# EAGLE library part PCB_EDGE_CONNECTOR (library Cynara-Connectors)
PCB EDGE CONNECTOR mating with SAMTEC 1MM MINI-CARD GUIDE MB1 series: MB1-150-01-F-S-02-SL
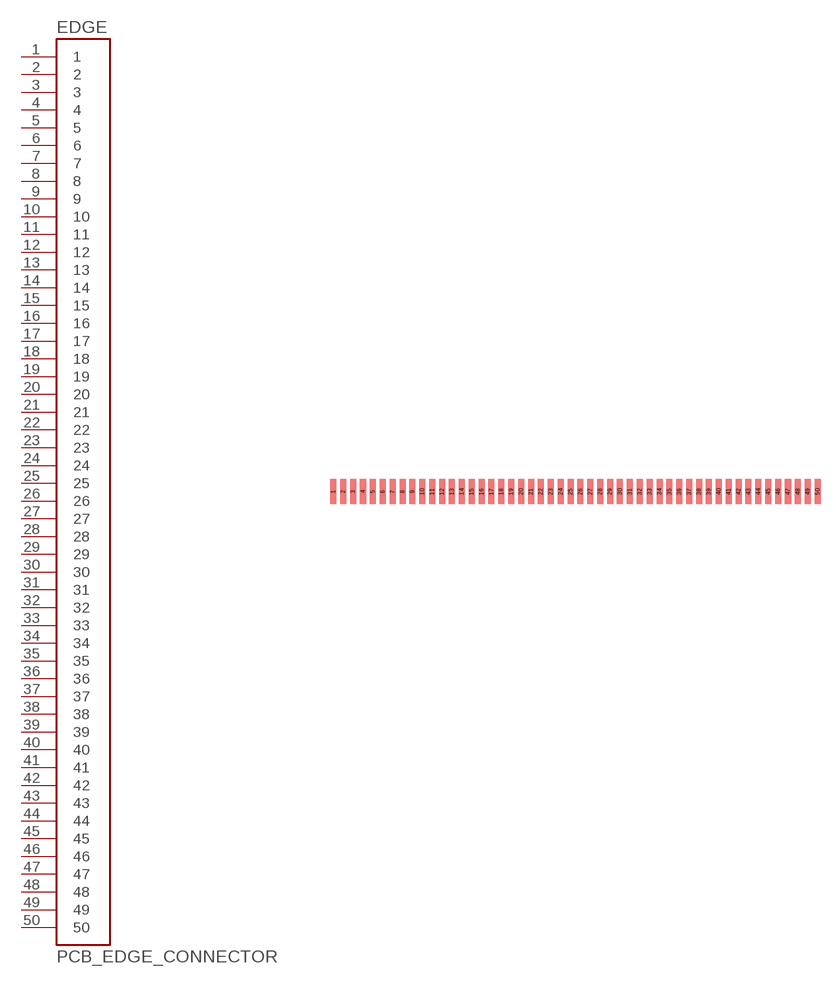
[diagram p4: symbol with the pads of MB1-150-01-XX-S-XX-SL-CARD; footprint MB1-150-01-XX-S-XX-SL-CARD]

Designator prefix EDGE

## PCB_EDGE_CONNECTOR (VALUE: EDGE 50p)  [MB1-150-01-XX-S-XX-SL-CARD]
1  1
2  2
3  3
4  4
5  5
6  6
7  7
8  8
9  9
10  10
11  11
12  12
13  13
14  14
15  15
16  16
17  17
18  18
19  19
20  20
21  21
22  22
23  23
24  24
25  25
26  26
27  27
28  28
29  29
30  30
31  31
32  32
33  33
34  34
35  35
36  36
37  37
38  38
39  39
40  40
41  41
42  42
43  43
44  44
45  45
46  46
47  47
48  48
49  49
50  50

## Footprint MB1-150-01-XX-S-XX-SL-CARD (pad centres in mm)
1MM MINI-CARD GUIDE.
smd 0.61 x 2.54: 1 -24.5,1.905; 2 -23.5,1.905; 3 -22.5,1.905; 4 -21.5,1.905; 5 -20.5,1.905; 6 -19.5,1.905; 7 -18.5,1.905; 8 -17.5,1.905; 9 -16.5,1.905; 10 -15.5,1.905; 11 -14.5,1.905; 12 -13.5,1.905; 13 -12.5,1.905; 14 -11.5,1.905; 15 -10.5,1.905; 16 -9.5,1.905; 17 -8.5,1.905; 18 -7.5,1.905; 19 -6.5,1.905; 20 -5.5,1.905; 21 -4.5,1.905; 22 -3.5,1.905; 23 -2.5,1.905; 24 -1.5,1.905; 25 -0.5,1.905; 26 0.5,1.905; 27 1.5,1.905; 28 2.5,1.905; 29 3.5,1.905; 30 4.5,1.905; 31 5.5,1.905; 32 6.5,1.905; 33 7.5,1.905; 34 8.5,1.905; 35 9.5,1.905; 36 10.5,1.905; 37 11.5,1.905; 38 12.5,1.905; 39 13.5,1.905; 40 14.5,1.905; 41 15.5,1.905; 42 16.5,1.905; 43 17.5,1.905; 44 18.5,1.905; 45 19.5,1.905; 46 20.5,1.905; 47 21.5,1.905; 48 22.5,1.905; 49 23.5,1.905; 50 24.5,1.905